# EAGLE library part IP4786CZ32 (library microbuilder)
IP4786CZ32
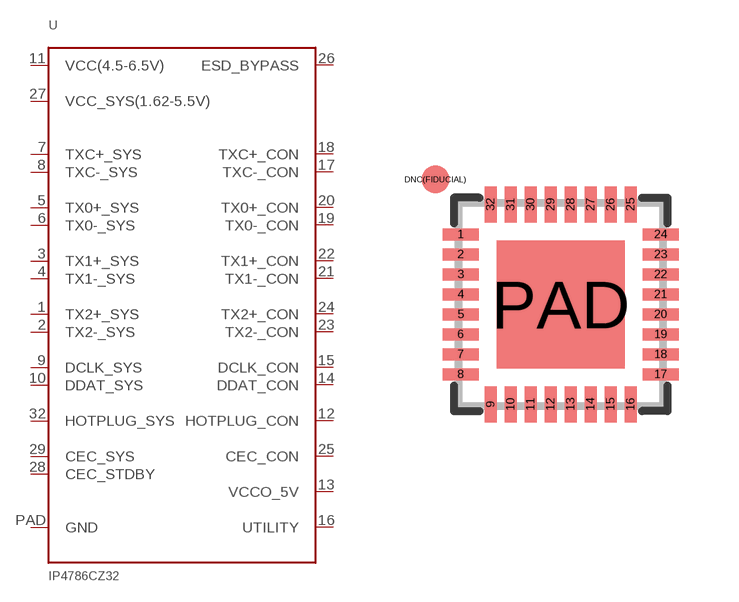
[diagram p151: symbol with the pads of HVQFN32; footprint HVQFN32]

Designator prefix U

## IP4786CZ32  [HVQFN32]
1  TX2+_SYS
2  TX2-_SYS
3  TX1+_SYS
4  TX1-_SYS
5  TX0+_SYS
6  TX0-_SYS
7  TXC+_SYS
8  TXC-_SYS
9  DCLK_SYS
10  DDAT_SYS
11  VCC(4.5-6.5V)
12  HOTPLUG_CON
13  VCCO_5V
14  DDAT_CON
15  DCLK_CON
16  UTILITY
17  TXC-_CON
18  TXC+_CON
19  TX0-_CON
20  TX0+_CON
21  TX1-_CON
22  TX1+_CON
23  TX2-_CON
24  TX2+_CON
25  CEC_CON
26  ESD_BYPASS
27  VCC_SYS(1.62-5.5V)
28  CEC_STDBY
29  CEC_SYS
32  HOTPLUG_SYS
PAD  GND

## Footprint HVQFN32 (pad centres in mm)
HVQFN32 SOT617-1 JEDEC MO-220
smd 0.9 x 0.3: 1 -2.5,1.75; 2 -2.5,1.25; 3 -2.5,0.75; 4 -2.5,0.25; 5 -2.5,-0.25; 6 -2.5,-0.75; 7 -2.5,-1.25; 8 -2.5,-1.75; 17 2.5,-1.75; 18 2.5,-1.25; 19 2.5,-0.75; 20 2.5,-0.25; 21 2.5,0.25; 22 2.5,0.75; 23 2.5,1.25; 24 2.5,1.75
smd 0.3 x 0.9: 9 -1.75,-2.5; 10 -1.25,-2.5; 11 -0.75,-2.5; 12 -0.25,-2.5; 13 0.25,-2.5; 14 0.75,-2.5; 15 1.25,-2.5; 16 1.75,-2.5; 25 1.75,2.5; 26 1.25,2.5; 27 0.75,2.5; 28 0.25,2.5; 29 -0.25,2.5; 30 -0.75,2.5; 31 -1.25,2.5; 32 -1.75,2.5
smd 0.7 x 0.7: DNC(FIDUCIAL) -3.127,3.127
smd 3.2 x 3.2: PAD 0,0